# EAGLE library part SN74LV04A-HEX-INVERTER (library BrownSpaceEngineering)
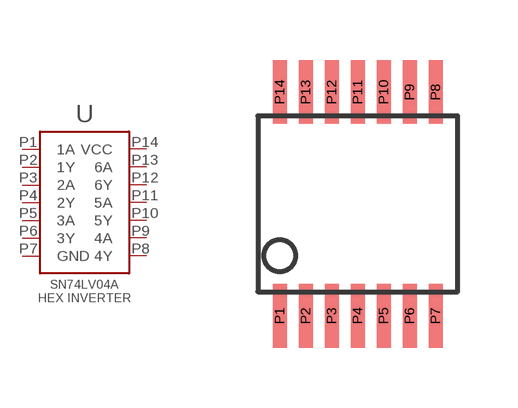
[diagram p27: symbol with the pads of TSSOP-14; footprint TSSOP-14]

Designator prefix U

## SN74LV04A-HEX-INVERTER  [TSSOP-14]
P1  1A
P2  1Y
P3  2A
P4  2Y
P5  3A
P6  3Y
P7  GND
P8  4Y
P9  4A
P10  5Y
P11  5A
P12  6Y
P13  6A
P14  VCC

## Footprint TSSOP-14 (pad centres in mm)
smd 0.35 x 1.6: P1 -1.95,-2.8; P2 -1.3,-2.8; P3 -0.65,-2.8; P4 0,-2.8; P5 0.65,-2.8; P6 1.3,-2.8; P7 1.95,-2.8; P8 1.95,2.8; P9 1.3,2.8; P10 0.65,2.8; P11 0,2.8; P12 -0.65,2.8; P13 -1.3,2.8; P14 -1.95,2.8